# Altium schematic symbol library DCR01_P.Schlib: 1 symbol
Pins are listed as number, name and electrical type; pins without a type are passive.

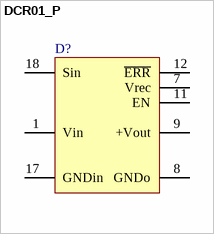
[diagram p0: symbol DCR01_P]

## DCR01_P
designator D?
DC-DC converter; Package Information: Latest Revision: ver11.0, Feb-2003; Configures: APEX II, APEX 20K, Mercury, ACEX 1K & FLEX Devices; Code - JEDEC: MS-026-ABA; Published: 17-Sep-2003; Datasheet: Latest Revision: ver1.1, Oct-2003; Package Reference: TQFP32; Publisher: Altium Limited
footprint DIP-18 DCR
pins: 1 Vin (power), 7 Vrec (power), 8 GNDo (power), 9 +Vout (power), 11 EN, 12 ~{ERR} (power), 17 GNDin (power), 18 Sin (hiz)